# EAGLE library part ADUM5000 (library BMC components)
ADuM5000 2.5 kV, Isolated DC-to-DC Converter Provides regulated, isolated 3.3V or 5V output at 3.3V or 5V in, at up to 500 mW output power. Datasheet: http://www.analog.com/static/imported-files/data_sheets/ADuM5000.pdf Product page: http://www.analog.com/en/interface/digital-isolators/adum5000/products/product.html
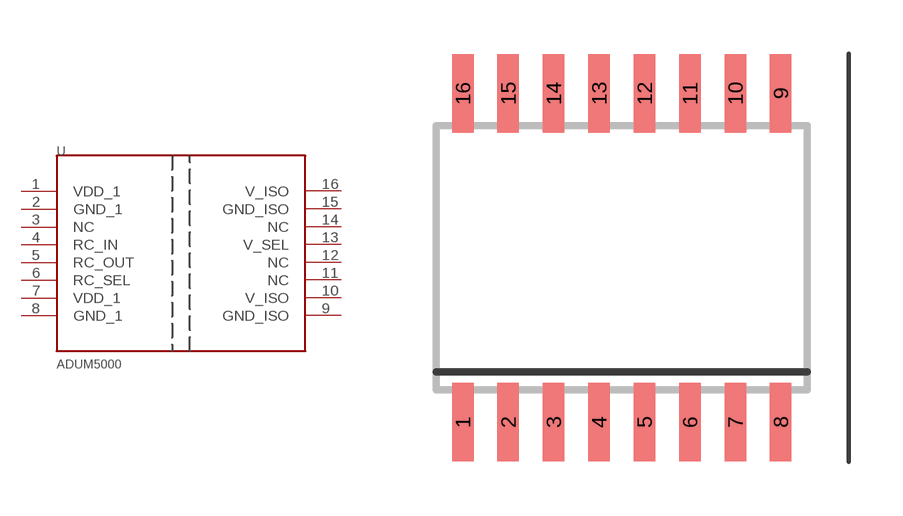
[diagram p13: symbol with the pads of SO-16W; footprint SO-16W]

Designator prefix -

## ADUM5000  [SO-16W]
1  VDD_1
2  GND_1
3  NC  nc
4  RC_IN
5  RC_OUT
6  RC_SEL
7  VDD_1
8  GND_1
9  GND_ISO
10  V_ISO
11  NC  nc
12  NC  nc
13  V_SEL
14  NC  nc
15  GND_ISO
16  V_ISO

## Footprint SO-16W (pad centres in mm)
SO-16 W: SO-16 wide body Copied from analog.lbr
smd 0.6 x 2.2: 1 -4.445,-3.33; 2 -3.175,-3.33; 3 -1.905,-3.33; 4 -0.635,-3.33; 5 0.635,-3.33; 6 1.905,-3.33; 7 3.175,-3.33; 8 4.445,-3.33; 9 4.445,5.87; 10 3.175,5.87; 11 1.905,5.87; 12 0.635,5.87; 13 -0.635,5.87; 14 -1.905,5.87; 15 -3.175,5.87; 16 -4.445,5.87